# EAGLE library part TMP100 (library SUCHAI)
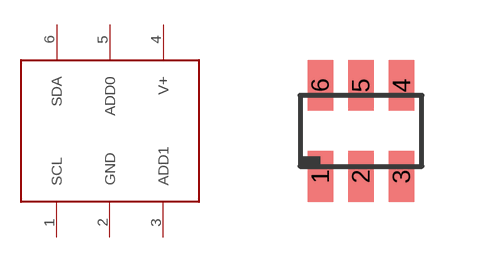
[diagram p11: symbol with the pads of SOT23-6; footprint SOT23-6]

Designator prefix -

## TMP100  [SOT23-6]
1  SCL
2  GND
3  ADD1
4  V+
5  ADD0
6  SDA

## Footprint SOT23-6 (pad centres in mm)
Pad pattern for SOT23-6 package. Used in TI's TMP100 temperature sensor
smd 0.635 x 1.27: 1 1.27,-0.254; 2 2.286,-0.254; 3 3.302,-0.254; 4 3.302,2.032; 5 2.286,2.032; 6 1.27,2.032